# EAGLE library part 6120XX235221_612034235221 (library WR-BHD)
WR-BHD 2.54 mm Male Characteristics Working Voltage: 250 V UL approval: E323964 UL94-V0 Applications Industrial Production lines Details see: www.we-online.com/components/products/WTB_WR_BHD_BOX_HEADER_2_54MM_MALE_PCB Updated by Ella 2026-09-16 2026 (C) Würth Elektronik
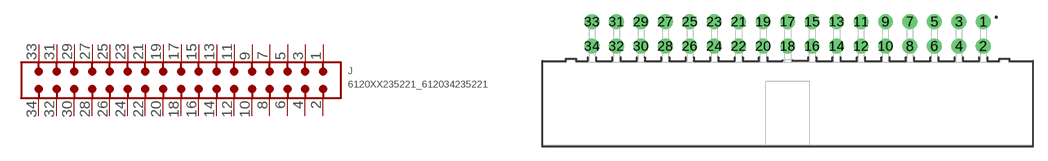
[diagram p92: symbol with the pads of 612034235221; footprint 612034235221]

Designator prefix J

## 6120XX235221_612034235221 (CATEGORY: Connectors; DATASHEET: https://www.we-online.com/redexpert/spec/612034235221?ae; GENDER: Male; LENGTH: 50.8 mm; MANUFACTURER: Würth Elektronik; MOUNT: THT; MPN: 612034235221; OPERATING_TEMPERATURE: -40 °C up to +125 °C; PACKAGING: Tray; PINS: 34; PITCH: 2.54mm; RATED_CURRENT: 3 A; SIZE: THT Angled - High Temperature; TYPE: Angled; VALUE: 612034235221; VERSION: Low Profile)  [612034235221]
1  1  pas
2  2  pas
3  3  pas
4  4  pas
5  5  pas
6  6  pas
7  7  pas
8  8  pas
9  9  pas
10  10  pas
11  11  pas
12  12  pas
13  13  pas
14  14  pas
15  15  pas
16  16  pas
17  17  pas
18  18  pas
19  19  pas
20  20  pas
21  21  pas
22  22  pas
23  23  pas
24  24  pas
25  25  pas
26  26  pas
27  27  pas
28  28  pas
29  29  pas
30  30  pas
31  31  pas
32  32  pas
33  33  pas
34  34  pas

## Footprint 612034235221 (pad centres in mm)
WR-BHD Wire-to-Board Connectors, 2.54mm, Male, THT Angled - High Temperature, 34pins
drill 1.02: 1 20.32,8.54; 2 20.32,6; 3 17.78,8.54; 4 17.78,6; 5 15.24,8.54; 6 15.24,6; 7 12.7,8.54; 8 12.7,6; 9 10.16,8.54; 10 10.16,6; 11 7.62,8.54; 12 7.62,6; 13 5.08,8.54; 14 5.08,6; 15 2.54,8.54; 16 2.54,6; 17 0,8.54; 18 0,6; 19 -2.54,8.54; 20 -2.54,6; 21 -5.08,8.54; 22 -5.08,6; 23 -7.62,8.54; 24 -7.62,6; 25 -10.16,8.54; 26 -10.16,6; 27 -12.7,8.54; 28 -12.7,6; 29 -15.24,8.54; 30 -15.24,6; 31 -17.78,8.54; 32 -17.78,6; 33 -20.32,8.54; 34 -20.32,6